# Altium schematic symbol library 电源插座.SchLib: 2 symbols
Pins are listed as number, name and electrical type; pins without a type are passive.

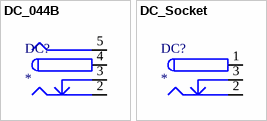
[diagram p0: symbols DC_044B to DC_Socket]

## DC_044B
designator DC?
footprint DC-044B-3A-2.5
pins: 2 (power), 3 (power), 4 (power), 5

## DC_Socket
designator DC?
footprint DC-002 (3.5X1.1mm)
footprint DC-003 (3.5X1.1mm)
footprint DC-003A (3.5X1.1mm)
footprint DC-005 (5.5X2.1mm)
footprint DC-012 (5.5X2.1mm)
footprint DC-031A (3.5X1.3mm)
footprint DC-050 (5.5X2.1mm)
pins: 1 (power), 2 (power), 3 (power)